# Altium schematic symbol library ML03V10R1AAT2A.SchLib: 2 symbols
Pins are listed as number, name and electrical type; pins without a type are passive.

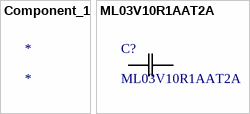
[diagram p0: symbols Component_1 to ML03V10R1AAT2A]

## Component_1
designator *

## ML03V10R1AAT2A
designator C?
No Description Available; Mfr_Name: KYOCERA AVX; Type: DEV; Copyright: Copyright (C) 2022 Ultra Librarian. All rights reserved.; Manufacturer_Part_Number: ML03V10R1AAT2A; RefDes: RefDes
footprint CAP_0603_AVX
pins: 1, 2